# EAGLE library part NE5534 (library ICs)
Low cost, high performace, single Low-Noise audio Operational Amplifier.
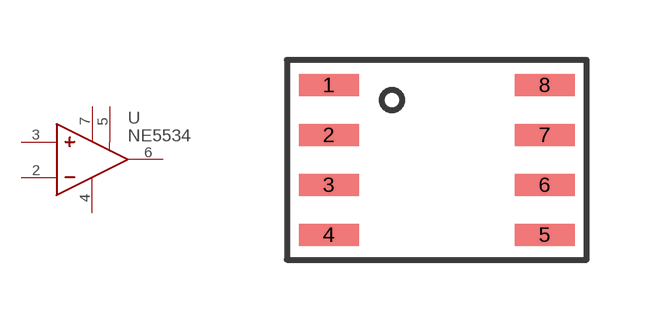
[diagram p3: symbol with the pads of SO8; footprint SO8]

Designator prefix U

## NE5534D (FARNELL: 9589872)  [SO8]
2  -
3  +
4  V-
5  SF
6  OUT
7  V+

## Footprint SO8 (pad centres in mm)
smd 1.5 x 0.55: 1 -2.7,1.875; 2 -2.7,0.625; 3 -2.7,-0.625; 4 -2.7,-1.875; 5 2.7,-1.875; 6 2.7,-0.625; 7 2.7,0.625; 8 2.7,1.875